# Altium integrated library ON Semi Small Signal Switching Diodes.IntLib: 233 symbols (part 4 of 6)
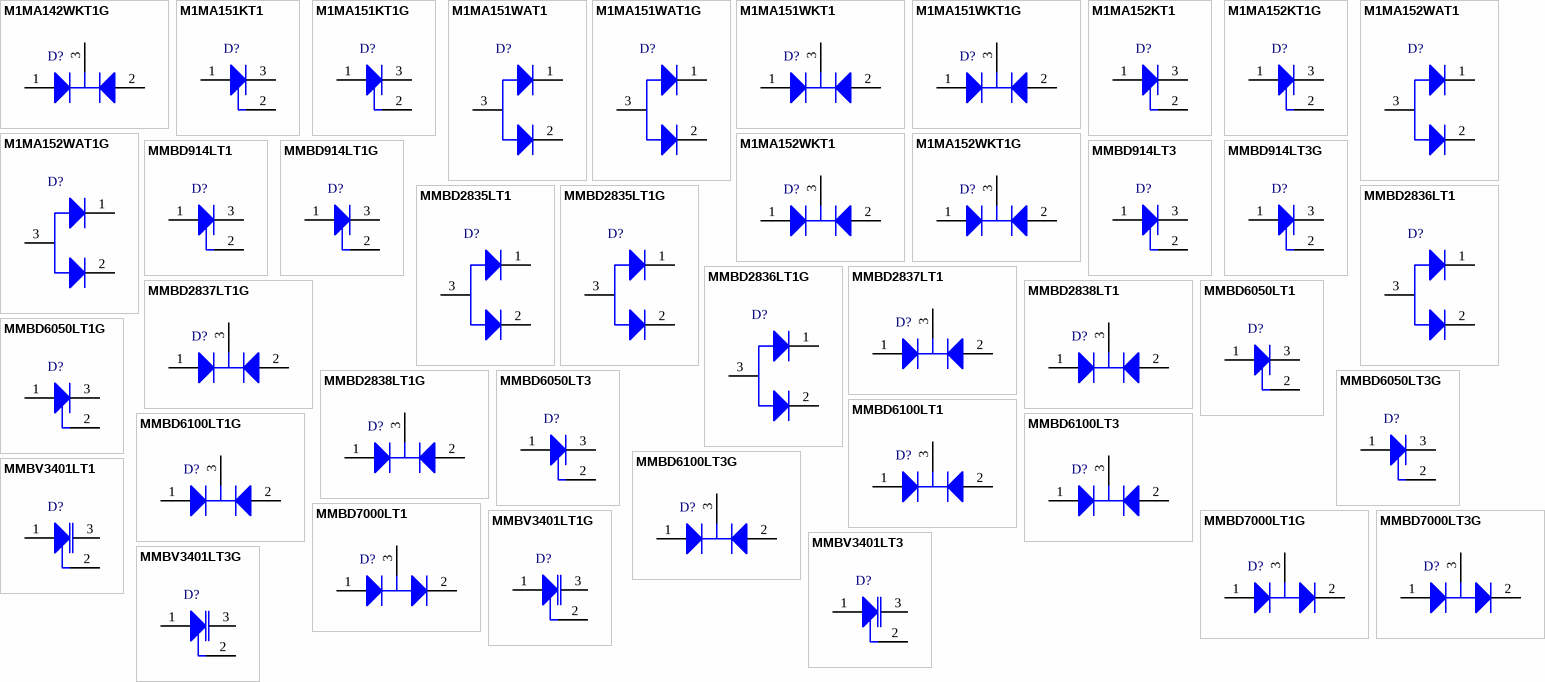
[diagram p9: symbols M1MA142WKT1G to MMBV3401LT3G]

## MMBD6100LT1
designator D?
Monolithic Dual Switching Diodes, 3-Pin SOT-23, Tape and Reel; Manufacturer: On Semiconductor; PartNumber: MMBD6100LT1; Configuration: Common Cathode; IF Max (A): 0.2; trr Max (ns): 4; DatasheetVersion: Rev. 3; PackageVersion: Rev. AP, 11/2009; PackageReference: SOT-23-3-318-08; PackageDescription: 3-Pin Small Outline Transistor, Body 2.92 x 1.3 mm, Pitch 0.95 mm; Supplier 1: Digi-Key; Supplier Part Number 1: MMBD6100LT1OSCT-ND; Packing: Tape and Reel; RoHS: FALSE; Mounting Technology: Surface Mount; ComponentLink1Description: Manufacturer URL; ComponentLink1URL: http://www.onsemi.com/; ComponentLink2Description: Datasheet; ComponentLink2URL: http://www.onsemi.cn/pub_link/Collateral/MMBD6100LT1-D.PDF; ComponentLink3Description: Package Specification; ComponentLink3URL: http://www.onsemi.cn/pub_link/Collateral/318-08.PDF
footprint ONSC-SOT-23-3-318-08_V (SOT23, 3-Leads, Body 2.92x1.3mm, Pitch 0.95mm)
pins: 1 A1, 2 A2, 3 K

## MMBD6100LT1G
designator D?
Monolithic Dual Switching Diodes, 3-Pin SOT-23, Pb-Free, Tape and Reel; Manufacturer: On Semiconductor; PartNumber: MMBD6100LT1G; Configuration: Common Cathode; IF Max (A): 0.2; trr Max (ns): 4; DatasheetVersion: Rev. 3; PackageVersion: Rev. AP, 11/2009; PackageReference: SOT-23-3-318-08; PackageDescription: 3-Pin Small Outline Transistor, Body 2.92 x 1.3 mm, Pitch 0.95 mm; Supplier 1: Digi-Key; Supplier Part Number 1: MMBD6100LT1GOSTR-ND; Supplier 2: Digi-Key; Supplier Part Number 2: MMBD6100LT1GOSCT-ND; Supplier 3: Digi-Key; Supplier Part Number 3: MMBD6100LT1GOSDKR-ND; Supplier 4: Farnell; Supplier Part Number 4: 1459096RL; Supplier 5: Farnell; Supplier Part Number 5: 1459096; Supplier 6: Farnell; Supplier Part Number 6: 2370813; Supplier 7: Newark; Supplier Part Number 7: 67R1324; Supplier 8: Newark; Supplier Part Number 8: 45J1515; Supplier 9: Mouser; Supplier Part Number 9: 863-MMBD6100LT1G; Packing: Tape and Reel; RoHS: TRUE; Mounting Technology: Surface Mount; ComponentLink1Description: Manufacturer URL; ComponentLink1URL: http://www.onsemi.com/; ComponentLink2Description: Datasheet; ComponentLink2URL: http://www.onsemi.cn/pub_link/Collateral/MMBD6100LT1-D.PDF; ComponentLink3Description: Package Specification; ComponentLink3URL: http://www.onsemi.cn/pub_link/Collateral/318-08.PDF
footprint ONSC-SOT-23-3-318-08_V (SOT23, 3-Leads, Body 2.92x1.3mm, Pitch 0.95mm)
pins: 1 A1, 2 A2, 3 K

## MMBD6100LT3
designator D?
Monolithic Dual Switching Diodes, 3-Pin SOT-23, Tape and Reel; Manufacturer: On Semiconductor; PartNumber: MMBD6100LT3; Configuration: Common Cathode; IF Max (A): 0.2; trr Max (ns): 4; DatasheetVersion: Rev. 3; PackageVersion: Rev. AP, 11/2009; PackageReference: SOT-23-3-318-08; PackageDescription: 3-Pin Small Outline Transistor, Body 2.92 x 1.3 mm, Pitch 0.95 mm; Supplier 1: Digi-Key; Supplier Part Number 1: MMBD6100LT3-ND; Supplier 2: Mouser; Supplier Part Number 2: 863-MMBD6100LT3; Packing: Tape and Reel; RoHS: FALSE; Mounting Technology: Surface Mount; ComponentLink1Description: Manufacturer URL; ComponentLink1URL: http://www.onsemi.com/; ComponentLink2Description: Datasheet; ComponentLink2URL: http://www.onsemi.cn/pub_link/Collateral/MMBD6100LT1-D.PDF; ComponentLink3Description: Package Specification; ComponentLink3URL: http://www.onsemi.cn/pub_link/Collateral/318-08.PDF
footprint ONSC-SOT-23-3-318-08_V (SOT23, 3-Leads, Body 2.92x1.3mm, Pitch 0.95mm)
pins: 1 A1, 2 A2, 3 K

## MMBD6100LT3G
designator D?
Monolithic Dual Switching Diodes, 3-Pin SOT-23, Pb-Free, Tape and Reel; Manufacturer: On Semiconductor; PartNumber: MMBD6100LT3G; Configuration: Common Cathode; IF Max (A): 0.2; trr Max (ns): 4; DatasheetVersion: Rev. 3; PackageVersion: Rev. AP, 11/2009; PackageReference: SOT-23-3-318-08; PackageDescription: 3-Pin Small Outline Transistor, Body 2.92 x 1.3 mm, Pitch 0.95 mm; Supplier 1: Digi-Key; Supplier Part Number 1: MMBD6100LT3G-ND; Supplier 2: Mouser; Supplier Part Number 2: 863-MMBD6100LT3G; Packing: Tape and Reel; RoHS: TRUE; Mounting Technology: Surface Mount; ComponentLink1Description: Manufacturer URL; ComponentLink1URL: http://www.onsemi.com/; ComponentLink2Description: Datasheet; ComponentLink2URL: http://www.onsemi.cn/pub_link/Collateral/MMBD6100LT1-D.PDF; ComponentLink3Description: Package Specification; ComponentLink3URL: http://www.onsemi.cn/pub_link/Collateral/318-08.PDF
footprint ONSC-SOT-23-3-318-08_V (SOT23, 3-Leads, Body 2.92x1.3mm, Pitch 0.95mm)
pins: 1 A1, 2 A2, 3 K

## MMBD7000LT1
designator D?
Dual Switching Diodes, 3-Pin SOT-23, Tape and Reel; Manufacturer: On Semiconductor; PartNumber: MMBD7000LT1; Configuration: Dual Series; IF Max (A): 0.2; trr Max (ns): 4; DatasheetVersion: Rev. 6; PackageVersion: Rev. AP, 11/2009; PackageReference: SOT-23-3-318-08; PackageDescription: 3-Pin Small Outline Transistor, Body 2.92 x 1.3 mm, Pitch 0.95 mm; Supplier 1: Digi-Key; Supplier Part Number 1: MMBD7000LT1OSCT-ND; Packing: Tape and Reel; RoHS: FALSE; Mounting Technology: Surface Mount; ComponentLink1Description: Manufacturer URL; ComponentLink1URL: http://www.onsemi.com/; ComponentLink2Description: Datasheet; ComponentLink2URL: http://www.onsemi.cn/pub_link/Collateral/MMBD7000LT1-D.PDF; ComponentLink3Description: Package Specification; ComponentLink3URL: http://www.onsemi.cn/pub_link/Collateral/318-08.PDF
footprint ONSC-SOT-23-3-318-08_V (SOT23, 3-Leads, Body 2.92x1.3mm, Pitch 0.95mm)
pins: 1 A, 2 K, 3 K/A

## MMBD7000LT1G
designator D?
Dual Switching Diodes, 3-Pin SOT-23, Pb-Free, Tape and Reel; Manufacturer: On Semiconductor; PartNumber: MMBD7000LT1G; Configuration: Dual Series; IF Max (A): 0.2; trr Max (ns): 4; DatasheetVersion: Rev. 6; PackageVersion: Rev. AP, 11/2009; PackageReference: SOT-23-3-318-08; PackageDescription: 3-Pin Small Outline Transistor, Body 2.92 x 1.3 mm, Pitch 0.95 mm; Supplier 1: Digi-Key; Supplier Part Number 1: MMBD7000LT1GOSTR-ND; Supplier 2: Digi-Key; Supplier Part Number 2: MMBD7000LT1GOSCT-ND; Supplier 3: Digi-Key; Supplier Part Number 3: MMBD7000LT1GOSDKR-ND; Supplier 4: Farnell; Supplier Part Number 4: 2317661; Supplier 5: Farnell; Supplier Part Number 5: 1459097RL; Supplier 6: Farnell; Supplier Part Number 6: 1459097; Supplier 7: Newark; Supplier Part Number 7: 67R1325; Supplier 8: Newark; Supplier Part Number 8: 88H4776; Supplier 9: Newark; Supplier Part Number 9: 28X7920; Supplier 10: Mouser; Supplier Part Number 10: 863-MMBD7000LT1G; Packing: Tape and Reel; RoHS: TRUE; Mounting Technology: Surface Mount; ComponentLink1Description: Manufacturer URL; ComponentLink1URL: http://www.onsemi.com/; ComponentLink2Description: Datasheet; ComponentLink2URL: http://www.onsemi.cn/pub_link/Collateral/MMBD7000LT1-D.PDF; ComponentLink3Description: Package Specification; ComponentLink3URL: http://www.onsemi.cn/pub_link/Collateral/318-08.PDF
footprint ONSC-SOT-23-3-318-08_V (SOT23, 3-Leads, Body 2.92x1.3mm, Pitch 0.95mm)
pins: 1 A, 2 K, 3 K/A

## MMBD7000LT3G
designator D?
Dual Switching Diodes, 3-Pin SOT-23, Pb-Free, Tape and Reel; Manufacturer: On Semiconductor; PartNumber: MMBD7000LT3G; Configuration: Dual Series; IF Max (A): 0.2; trr Max (ns): 4; DatasheetVersion: Rev. 6; PackageVersion: Rev. AP, 11/2009; PackageReference: SOT-23-3-318-08; PackageDescription: 3-Pin Small Outline Transistor, Body 2.92 x 1.3 mm, Pitch 0.95 mm; Supplier 1: Digi-Key; Supplier Part Number 1: MMBD7000LT3GOSTR-ND; Supplier 2: Digi-Key; Supplier Part Number 2: MMBD7000LT3GOSCT-ND; Supplier 3: Digi-Key; Supplier Part Number 3: MMBD7000LT3GOSDKR-ND; Supplier 4: Farnell; Supplier Part Number 4: 1899522; Supplier 5: Newark; Supplier Part Number 5: 09R9444; Supplier 6: Newark; Supplier Part Number 6: 71J5986; Supplier 7: Mouser; Supplier Part Number 7: 863-MMBD7000LT3G; Packing: Tape and Reel; RoHS: TRUE; Mounting Technology: Surface Mount; ComponentLink1Description: Manufacturer URL; ComponentLink1URL: http://www.onsemi.com/; ComponentLink2Description: Datasheet; ComponentLink2URL: http://www.onsemi.cn/pub_link/Collateral/MMBD7000LT1-D.PDF; ComponentLink3Description: Package Specification; ComponentLink3URL: http://www.onsemi.cn/pub_link/Collateral/318-08.PDF
footprint ONSC-SOT-23-3-318-08_V (SOT23, 3-Leads, Body 2.92x1.3mm, Pitch 0.95mm)
pins: 1 A, 2 K, 3 K/A

## MMBV3401LT1
designator D?
Silicon Pin Diode, 3-Pin SOT-23, Tape and Reel; Manufacturer: On Semiconductor; PartNumber: MMBV3401LT1; Configuration: Single; DatasheetVersion: Rev. 6; PackageVersion: Rev. AP, 11/2009; PackageReference: SOT-23-3-318-08; PackageDescription: 3-Pin Small Outline Transistor, Body 2.92 x 1.3 mm, Pitch 0.95 mm; Supplier 1: Digi-Key; Supplier Part Number 1: MMBV3401LT1OSCT-ND; Packing: Tape and Reel; RoHS: FALSE; Mounting Technology: Surface Mount; ComponentLink1Description: Manufacturer URL; ComponentLink1URL: http://www.onsemi.com/; ComponentLink2Description: Datasheet; ComponentLink2URL: http://www.onsemi.cn/pub_link/Collateral/MMBV3401LT1-D.PDF; ComponentLink3Description: Package Specification; ComponentLink3URL: http://www.onsemi.cn/pub_link/Collateral/318-08.PDF
footprint ONSC-SOT-23-3-318-08_V (SOT23, 3-Leads, Body 2.92x1.3mm, Pitch 0.95mm)
pins: 1 A, 2 NC, 3 K

## MMBV3401LT1G
designator D?
Silicon Pin Diode, 3-Pin SOT-23, Pb-Free, Tape and Reel; Manufacturer: On Semiconductor; PartNumber: MMBV3401LT1G; Configuration: Single; DatasheetVersion: Rev. 6; PackageVersion: Rev. AP, 11/2009; PackageReference: SOT-23-3-318-08; PackageDescription: 3-Pin Small Outline Transistor, Body 2.92 x 1.3 mm, Pitch 0.95 mm; Supplier 1: Digi-Key; Supplier Part Number 1: MMBV3401LT1GOSTR-ND; Supplier 2: Digi-Key; Supplier Part Number 2: MMBV3401LT1GOSCT-ND; Supplier 3: Digi-Key; Supplier Part Number 3: MMBV3401LT1GOSDKR-ND; Supplier 4: Newark; Supplier Part Number 4: 45J1542; Supplier 5: Mouser; Supplier Part Number 5: 863-MMBV3401LT1G; Packing: Tape and Reel; RoHS: TRUE; Mounting Technology: Surface Mount; ComponentLink1Description: Manufacturer URL; ComponentLink1URL: http://www.onsemi.com/; ComponentLink2Description: Datasheet; ComponentLink2URL: http://www.onsemi.cn/pub_link/Collateral/MMBV3401LT1-D.PDF; ComponentLink3Description: Package Specification; ComponentLink3URL: http://www.onsemi.cn/pub_link/Collateral/318-08.PDF
footprint ONSC-SOT-23-3-318-08_V (SOT23, 3-Leads, Body 2.92x1.3mm, Pitch 0.95mm)
pins: 1 A, 2 NC, 3 K

## MMBV3401LT3
designator D?
Silicon Pin Diode, 3-Pin SOT-23, Tape and Reel; Manufacturer: On Semiconductor; PartNumber: MMBV3401LT3; Note: 0; Configuration: Single; DatasheetVersion: Rev. 6; PackageVersion: Rev. AP, 11/2009; PackageReference: SOT-23-3-318-08; PackageDescription: 3-Pin Small Outline Transistor, Body 2.92 x 1.3 mm, Pitch 0.95 mm; Packing: Tape and Reel; RoHS: FALSE; Mounting Technology: Surface Mount; ComponentLink1Description: Manufacturer URL; ComponentLink1URL: http://www.onsemi.com/; ComponentLink2Description: Datasheet; ComponentLink2URL: http://www.onsemi.cn/pub_link/Collateral/MMBV3401LT1-D.PDF; ComponentLink3Description: Package Specification; ComponentLink3URL: http://www.onsemi.cn/pub_link/Collateral/318-08.PDF
footprint ONSC-SOT-23-3-318-08_V (SOT23, 3-Leads, Body 2.92x1.3mm, Pitch 0.95mm)
pins: 1 A, 2 NC, 3 K

## MMBV3401LT3G
designator D?
Silicon Pin Diode, 3-Pin SOT-23, Pb-Free, Tape and Reel; Manufacturer: On Semiconductor; PartNumber: MMBV3401LT3G; Configuration: Single; DatasheetVersion: Rev. 6; PackageVersion: Rev. AP, 11/2009; PackageReference: SOT-23-3-318-08; PackageDescription: 3-Pin Small Outline Transistor, Body 2.92 x 1.3 mm, Pitch 0.95 mm; Supplier 1: Digi-Key; Supplier Part Number 1: MMBV3401LT3G-ND; Supplier 2: Newark; Supplier Part Number 2: 42K1352; Supplier 3: Mouser; Supplier Part Number 3: 863-MMBV3401LT3G; Packing: Tape and Reel; RoHS: TRUE; Mounting Technology: Surface Mount; ComponentLink1Description: Manufacturer URL; ComponentLink1URL: http://www.onsemi.com/; ComponentLink2Description: Datasheet; ComponentLink2URL: http://www.onsemi.cn/pub_link/Collateral/MMBV3401LT1-D.PDF; ComponentLink3Description: Package Specification; ComponentLink3URL: http://www.onsemi.cn/pub_link/Collateral/318-08.PDF
footprint ONSC-SOT-23-3-318-08_V (SOT23, 3-Leads, Body 2.92x1.3mm, Pitch 0.95mm)
pins: 1 A, 2 NC, 3 K

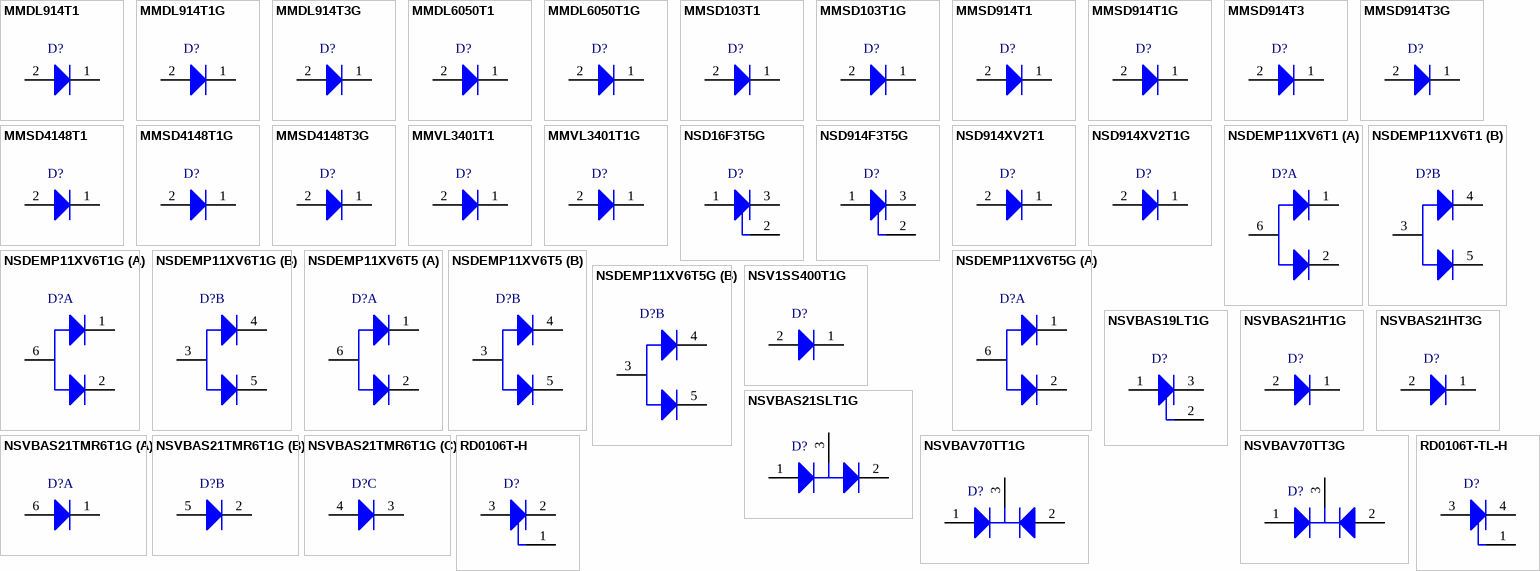
[diagram p4: symbols MMDL914T1 to RD0106T-TL-H]

## MMDL914T1
designator D?
High-Speed Switching Diode, 2-Pin SOD-323, Tape and Reel; Manufacturer: On Semiconductor; PartNumber: MMDL914T1; Configuration: Single; IF Max (A): 0.2; trr Max (ns): 4; DatasheetVersion: Rev. 9; PackageVersion: Rev. H, 03/2007; PackageReference: SOD-323-2-477-02; PackageDescription: 2-Pin SOD, Body 1.7 x 1.25 mm; Supplier 1: Digi-Key; Supplier Part Number 1: MMDL914T1OSCT-ND; Packing: Tape and Reel; RoHS: FALSE; Mounting Technology: Surface Mount; ComponentLink1Description: Manufacturer URL; ComponentLink1URL: http://www.onsemi.com/; ComponentLink2Description: Datasheet; ComponentLink2URL: http://www.onsemi.com/pub_link/Collateral/MMDL914T1-D.PDF; ComponentLink3Description: Package Specification; ComponentLink3URL: http://www.onsemi.com/pub_link/Collateral/477-02.PDF.1
footprint ONSC-SOD-323-2-477-02_V (SOD, 2-Leads, Body 1.7x1.25mm)
pins: 1 K, 2 A

## MMDL914T1G
designator D?
High-Speed Switching Diode, 2-Pin SOD-323, Pb-Free, Tape and Reel; Manufacturer: On Semiconductor; PartNumber: MMDL914T1G; Configuration: Single; IF Max (A): 0.2; trr Max (ns): 4; DatasheetVersion: Rev. 9; PackageVersion: Rev. H, 03/2007; PackageReference: SOD-323-2-477-02; PackageDescription: 2-Pin SOD, Body 1.7 x 1.25 mm; Supplier 1: Digi-Key; Supplier Part Number 1: MMDL914T1GOSTR-ND; Supplier 2: Digi-Key; Supplier Part Number 2: MMDL914T1GOSCT-ND; Supplier 3: Digi-Key; Supplier Part Number 3: MMDL914T1GOSDKR-ND; Supplier 4: Farnell; Supplier Part Number 4: 1838814; Supplier 5: Farnell; Supplier Part Number 5: 1838814RL; Supplier 6: Farnell; Supplier Part Number 6: 2317698; Supplier 7: Newark; Supplier Part Number 7: 10M6610; Supplier 8: Newark; Supplier Part Number 8: 88H4861; Supplier 9: Mouser; Supplier Part Number 9: 863-MMDL914T1G; Packing: Tape and Reel; RoHS: TRUE; Mounting Technology: Surface Mount; ComponentLink1Description: Manufacturer URL; ComponentLink1URL: http://www.onsemi.com/; ComponentLink2Description: Datasheet; ComponentLink2URL: http://www.onsemi.com/pub_link/Collateral/MMDL914T1-D.PDF; ComponentLink3Description: Package Specification; ComponentLink3URL: http://www.onsemi.com/pub_link/Collateral/477-02.PDF.1
footprint ONSC-SOD-323-2-477-02_V (SOD, 2-Leads, Body 1.7x1.25mm)
pins: 1 K, 2 A

## MMDL914T3G
designator D?
High-Speed Switching Diode, 2-Pin SOD-323, Pb-Free, Tape and Reel; Manufacturer: On Semiconductor; PartNumber: MMDL914T3G; Configuration: Single; IF Max (A): 0.2; trr Max (ns): 4; DatasheetVersion: Rev. 9; PackageVersion: Rev. H, 03/2007; PackageReference: SOD-323-2-477-02; PackageDescription: 2-Pin SOD, Body 1.7 x 1.25 mm; Supplier 1: Digi-Key; Supplier Part Number 1: MMDL914T3G-ND; Supplier 2: Mouser; Supplier Part Number 2: 863-MMDL914T3G; Packing: Tape and Reel; RoHS: TRUE; Mounting Technology: Surface Mount; ComponentLink1Description: Manufacturer URL; ComponentLink1URL: http://www.onsemi.com/; ComponentLink2Description: Datasheet; ComponentLink2URL: http://www.onsemi.com/pub_link/Collateral/MMDL914T1-D.PDF; ComponentLink3Description: Package Specification; ComponentLink3URL: http://www.onsemi.com/pub_link/Collateral/477-02.PDF.1
footprint ONSC-SOD-323-2-477-02_V (SOD, 2-Leads, Body 1.7x1.25mm)
pins: 1 K, 2 A

## MMDL6050T1
designator D?
Switching Diode, 2-Pin SOD-323, Tape and Reel; Manufacturer: On Semiconductor; PartNumber: MMDL6050T1; Configuration: Single; IF Max (A): 0.2; trr Max (ns): 4; DatasheetVersion: Rev. 5; PackageVersion: Rev. H, 03/2007; PackageReference: SOD-323-2-477-02; PackageDescription: 2-Pin SOD, Body 1.7 x 1.25 mm; Supplier 1: Digi-Key; Supplier Part Number 1: MMDL6050T1-ND; Packing: Tape and Reel; RoHS: FALSE; Mounting Technology: Surface Mount; ComponentLink1Description: Manufacturer URL; ComponentLink1URL: http://www.onsemi.com/; ComponentLink2Description: Datasheet; ComponentLink2URL: http://www.onsemi.cn/pub_link/Collateral/MMDL6050T1-D.PDF; ComponentLink3Description: Package Specification; ComponentLink3URL: http://www.onsemi.com/pub_link/Collateral/477-02.PDF.1
footprint ONSC-SOD-323-2-477-02_V (SOD, 2-Leads, Body 1.7x1.25mm)
pins: 1 K, 2 A

## MMDL6050T1G
designator D?
Switching Diode, 2-Pin SOD-323, Pb-Free, Tape and Reel; Manufacturer: On Semiconductor; PartNumber: MMDL6050T1G; Configuration: Single; IF Max (A): 0.2; trr Max (ns): 4; DatasheetVersion: Rev. 5; PackageVersion: Rev. H, 03/2007; PackageReference: SOD-323-2-477-02; PackageDescription: 2-Pin SOD, Body 1.7 x 1.25 mm; Supplier 1: Digi-Key; Supplier Part Number 1: MMDL6050T1GOSTR-ND; Supplier 2: Digi-Key; Supplier Part Number 2: MMDL6050T1GOSCT-ND; Supplier 3: Digi-Key; Supplier Part Number 3: MMDL6050T1GOSDKR-ND; Supplier 4: Newark; Supplier Part Number 4: 88H4860; Supplier 5: Mouser; Supplier Part Number 5: 863-MMDL6050T1G; Packing: Tape and Reel; RoHS: TRUE; Mounting Technology: Surface Mount; ComponentLink1Description: Manufacturer URL; ComponentLink1URL: http://www.onsemi.com/; ComponentLink2Description: Datasheet; ComponentLink2URL: http://www.onsemi.cn/pub_link/Collateral/MMDL6050T1-D.PDF; ComponentLink3Description: Package Specification; ComponentLink3URL: http://www.onsemi.com/pub_link/Collateral/477-02.PDF.1
footprint ONSC-SOD-323-2-477-02_V (SOD, 2-Leads, Body 1.7x1.25mm)
pins: 1 K, 2 A

## MMSD103T1
designator D?
High Voltage Switching Diode, 2-Pin SOD-123, Tape and Reel; Manufacturer: On Semiconductor; PartNumber: MMSD103T1; Configuration: Single; IF Max (A): 0.2; trr Max (ns): 50; DatasheetVersion: Rev. 6; PackageVersion: Rev. G, 10/2009; PackageReference: SOD-123-2-425-04; PackageDescription: 2-Pin SOD, Body 1.6 x 2.69 mm; Supplier 1: Digi-Key; Supplier Part Number 1: MMSD103T1-ND; Packing: Tape and Reel; RoHS: FALSE; Mounting Technology: Surface Mount; ComponentLink1Description: Manufacturer URL; ComponentLink1URL: http://www.onsemi.com/; ComponentLink2Description: Datasheet; ComponentLink2URL: http://www.onsemi.com/pub_link/Collateral/MMSD103T1-D.PDF; ComponentLink3Description: Package Specification; ComponentLink3URL: http://www.onsemi.com/pub_link/Collateral/425-04.PDF
footprint ONSC-SOD-123-2-425-04_V (SOD, 2-Leads, Body 2.69x1.6mm)
pins: 1 K, 2 A

## MMSD103T1G
designator D?
High Voltage Switching Diode, 2-Pin SOD-123, Pb-Free, Tape and Reel; Manufacturer: On Semiconductor; PartNumber: MMSD103T1G; Configuration: Single; IF Max (A): 0.2; trr Max (ns): 50; DatasheetVersion: Rev. 6; PackageVersion: Rev. G, 10/2009; PackageReference: SOD-123-2-425-04; PackageDescription: 2-Pin SOD, Body 1.6 x 2.69 mm; Supplier 1: Digi-Key; Supplier Part Number 1: MMSD103T1GOSTR-ND; Supplier 2: Digi-Key; Supplier Part Number 2: MMSD103T1GOSCT-ND; Supplier 3: Digi-Key; Supplier Part Number 3: MMSD103T1GOSDKR-ND; Supplier 4: Farnell; Supplier Part Number 4: 1705833; Supplier 5: Newark; Supplier Part Number 5: 26K4562; Supplier 6: Mouser; Supplier Part Number 6: 863-MMSD103T1G; Packing: Tape and Reel; RoHS: TRUE; Mounting Technology: Surface Mount; ComponentLink1Description: Manufacturer URL; ComponentLink1URL: http://www.onsemi.com/; ComponentLink2Description: Datasheet; ComponentLink2URL: http://www.onsemi.com/pub_link/Collateral/MMSD103T1-D.PDF; ComponentLink3Description: Package Specification; ComponentLink3URL: http://www.onsemi.com/pub_link/Collateral/425-04.PDF
footprint ONSC-SOD-123-2-425-04_V (SOD, 2-Leads, Body 2.69x1.6mm)
pins: 1 K, 2 A

## MMSD914T1
designator D?
Switching Diode, 2-Pin SOD-123, Tape and Reel; Manufacturer: On Semiconductor; PartNumber: MMSD914T1; Configuration: Single; IF Max (A): 0.2; trr Max (ns): 4; DatasheetVersion: Rev. 11; PackageVersion: Rev. G, 10/2009; PackageReference: SOD-123-2-425-04; PackageDescription: 2-Pin SOD, Body 1.6 x 2.69 mm; Supplier 1: Digi-Key; Supplier Part Number 1: MMSD914T1OSCT-ND; Packing: Tape and Reel; RoHS: FALSE; Mounting Technology: Surface Mount; ComponentLink1Description: Manufacturer URL; ComponentLink1URL: http://www.onsemi.com/; ComponentLink2Description: Datasheet; ComponentLink2URL: http://www.onsemi.com/pub_link/Collateral/MMSD914T1-D.PDF; ComponentLink3Description: Package Specification; ComponentLink3URL: http://www.onsemi.com/pub_link/Collateral/425-04.PDF
footprint ONSC-SOD-123-2-425-04_V (SOD, 2-Leads, Body 2.69x1.6mm)
pins: 1 K, 2 A

## MMSD914T1G
designator D?
Switching Diode, 2-Pin SOD-123, Pb-Free, Tape and Reel; Manufacturer: On Semiconductor; PartNumber: MMSD914T1G; Configuration: Single; IF Max (A): 0.2; trr Max (ns): 4; DatasheetVersion: Rev. 11; PackageVersion: Rev. G, 10/2009; PackageReference: SOD-123-2-425-04; PackageDescription: 2-Pin SOD, Body 1.6 x 2.69 mm; Supplier 1: Digi-Key; Supplier Part Number 1: MMSD914T1GOSTR-ND; Supplier 2: Digi-Key; Supplier Part Number 2: MMSD914T1GOSCT-ND; Supplier 3: Digi-Key; Supplier Part Number 3: MMSD914T1GOSDKR-ND; Supplier 4: Farnell; Supplier Part Number 4: 1459114; Supplier 5: Farnell; Supplier Part Number 5: 2317701; Supplier 6: Farnell; Supplier Part Number 6: 1459114RL; Supplier 7: Newark; Supplier Part Number 7: 67R1362; Supplier 8: Newark; Supplier Part Number 8: 88H4865; Supplier 9: Mouser; Supplier Part Number 9: 863-MMSD914T1G; Packing: Tape and Reel; RoHS: TRUE; Mounting Technology: Surface Mount; ComponentLink1Description: Manufacturer URL; ComponentLink1URL: http://www.onsemi.com/; ComponentLink2Description: Datasheet; ComponentLink2URL: http://www.onsemi.com/pub_link/Collateral/MMSD914T1-D.PDF; ComponentLink3Description: Package Specification; ComponentLink3URL: http://www.onsemi.com/pub_link/Collateral/425-04.PDF
footprint ONSC-SOD-123-2-425-04_V (SOD, 2-Leads, Body 2.69x1.6mm)
pins: 1 K, 2 A

## MMSD914T3
designator D?
Switching Diode, 2-Pin SOD-123, Tape and Reel; Manufacturer: On Semiconductor; PartNumber: MMSD914T3; Configuration: Single; IF Max (A): 0.2; trr Max (ns): 4; DatasheetVersion: Rev. 11; PackageVersion: Rev. G, 10/2009; PackageReference: SOD-123-2-425-04; PackageDescription: 2-Pin SOD, Body 1.6 x 2.69 mm; Supplier 1: Digi-Key; Supplier Part Number 1: MMSD914T3-ND; Packing: Tape and Reel; RoHS: FALSE; Mounting Technology: Surface Mount; ComponentLink1Description: Manufacturer URL; ComponentLink1URL: http://www.onsemi.com/; ComponentLink2Description: Datasheet; ComponentLink2URL: http://www.onsemi.com/pub_link/Collateral/MMSD914T1-D.PDF; ComponentLink3Description: Package Specification; ComponentLink3URL: http://www.onsemi.com/pub_link/Collateral/425-04.PDF
footprint ONSC-SOD-123-2-425-04_V (SOD, 2-Leads, Body 2.69x1.6mm)
pins: 1 K, 2 A

## MMSD914T3G
designator D?
Switching Diode, 2-Pin SOD-123, Pb-Free, Tape and Reel; Manufacturer: On Semiconductor; PartNumber: MMSD914T3G; Configuration: Single; IF Max (A): 0.2; trr Max (ns): 4; DatasheetVersion: Rev. 11; PackageVersion: Rev. G, 10/2009; PackageReference: SOD-123-2-425-04; PackageDescription: 2-Pin SOD, Body 1.6 x 2.69 mm; Supplier 1: Digi-Key; Supplier Part Number 1: MMSD914T3G-ND; Supplier 2: Newark; Supplier Part Number 2: 42K1367; Supplier 3: Mouser; Supplier Part Number 3: 863-MMSD914T3G; Packing: Tape and Reel; RoHS: TRUE; Mounting Technology: Surface Mount; ComponentLink1Description: Manufacturer URL; ComponentLink1URL: http://www.onsemi.com/; ComponentLink2Description: Datasheet; ComponentLink2URL: http://www.onsemi.com/pub_link/Collateral/MMSD914T1-D.PDF; ComponentLink3Description: Package Specification; ComponentLink3URL: http://www.onsemi.com/pub_link/Collateral/425-04.PDF
footprint ONSC-SOD-123-2-425-04_V (SOD, 2-Leads, Body 2.69x1.6mm)
pins: 1 K, 2 A

## MMSD4148T1
designator D?
Switching Diode, 2-Pin SOD-123, Tape and Reel; Manufacturer: On Semiconductor; PartNumber: MMSD4148T1; Configuration: Single; IF Max (A): 0.2; trr Max (ns): 4; DatasheetVersion: Rev. 11; PackageVersion: Rev. G, 10/2009; PackageReference: SOD-123-2-425-04; PackageDescription: 2-Pin SOD, Body 1.6 x 2.69 mm; Supplier 1: Digi-Key; Supplier Part Number 1: MMSD4148T1OSCT-ND; Packing: Tape and Reel; RoHS: FALSE; Mounting Technology: Surface Mount; ComponentLink1Description: Manufacturer URL; ComponentLink1URL: http://www.onsemi.com/; ComponentLink2Description: Datasheet; ComponentLink2URL: http://www.onsemi.com/pub_link/Collateral/MMSD4148T1-D.PDF; ComponentLink3Description: Package Specification; ComponentLink3URL: http://www.onsemi.com/pub_link/Collateral/425-04.PDF
footprint ONSC-SOD-123-2-425-04_V (SOD, 2-Leads, Body 2.69x1.6mm)
pins: 1 K, 2 A

## MMSD4148T1G
designator D?
Switching Diode, 2-Pin SOD-123, Pb-Free, Tape and Reel; Manufacturer: On Semiconductor; PartNumber: MMSD4148T1G; Configuration: Single; IF Max (A): 0.2; trr Max (ns): 4; DatasheetVersion: Rev. 11; PackageVersion: Rev. G, 10/2009; PackageReference: SOD-123-2-425-04; PackageDescription: 2-Pin SOD, Body 1.6 x 2.69 mm; Supplier 1: Digi-Key; Supplier Part Number 1: MMSD4148T1GOSTR-ND; Supplier 2: Digi-Key; Supplier Part Number 2: MMSD4148T1GOSCT-ND; Supplier 3: Digi-Key; Supplier Part Number 3: MMSD4148T1GOSDKR-ND; Supplier 4: Farnell; Supplier Part Number 4: 2317697; Supplier 5: Farnell; Supplier Part Number 5: 9556079RL; Supplier 6: Farnell; Supplier Part Number 6: 9556079; Supplier 7: Newark; Supplier Part Number 7: 85W2822; Supplier 8: Newark; Supplier Part Number 8: 45J1568; Supplier 9: Newark; Supplier Part Number 9: 28X7925; Supplier 10: Mouser; Supplier Part Number 10: 863-MMSD4148T1G; Packing: Tape and Reel; RoHS: TRUE; Mounting Technology: Surface Mount; ComponentLink1Description: Manufacturer URL; ComponentLink1URL: http://www.onsemi.com/; ComponentLink2Description: Datasheet; ComponentLink2URL: http://www.onsemi.com/pub_link/Collateral/MMSD4148T1-D.PDF; ComponentLink3Description: Package Specification; ComponentLink3URL: http://www.onsemi.com/pub_link/Collateral/425-04.PDF
footprint ONSC-SOD-123-2-425-04_V (SOD, 2-Leads, Body 2.69x1.6mm)
pins: 1 K, 2 A

## MMSD4148T3G
designator D?
Switching Diode, 2-Pin SOD-123, Pb-Free, Tape and Reel; Manufacturer: On Semiconductor; PartNumber: MMSD4148T3G; Configuration: Single; IF Max (A): 0.2; trr Max (ns): 4; DatasheetVersion: Rev. 11; PackageVersion: Rev. G, 10/2009; PackageReference: SOD-123-2-425-04; PackageDescription: 2-Pin SOD, Body 1.6 x 2.69 mm; Supplier 1: Digi-Key; Supplier Part Number 1: MMSD4148T3GOSTR-ND; Supplier 2: Digi-Key; Supplier Part Number 2: MMSD4148T3GOSCT-ND; Supplier 3: Digi-Key; Supplier Part Number 3: MMSD4148T3GOSDKR-ND; Supplier 4: Farnell; Supplier Part Number 4: 2368409; Supplier 5: Newark; Supplier Part Number 5: 10N9495; Supplier 6: Newark; Supplier Part Number 6: 02M9801; Supplier 7: Mouser; Supplier Part Number 7: 863-MMSD4148T3G; Packing: Tape and Reel; RoHS: TRUE; Mounting Technology: Surface Mount; ComponentLink1Description: Manufacturer URL; ComponentLink1URL: http://www.onsemi.com/; ComponentLink2Description: Datasheet; ComponentLink2URL: http://www.onsemi.com/pub_link/Collateral/MMSD4148T1-D.PDF; ComponentLink3Description: Package Specification; ComponentLink3URL: http://www.onsemi.com/pub_link/Collateral/425-04.PDF
footprint ONSC-SOD-123-2-425-04_V (SOD, 2-Leads, Body 2.69x1.6mm)
pins: 1 K, 2 A

## MMVL3401T1
designator D?
Silicon Pin Diode, 2-Pin SOD-323, Tape and Reel; Manufacturer: On Semiconductor; PartNumber: MMVL3401T1; Configuration: Single; IF Max (A): 0.02; DatasheetVersion: Rev. 4; PackageVersion: Rev. H, 03/2007; PackageReference: SOD-323-2-477-02; PackageDescription: 2-Pin SOD, Body 1.7 x 1.25 mm; Supplier 1: Digi-Key; Supplier Part Number 1: MMVL3401T1-ND; Packing: Tape and Reel; RoHS: FALSE; Mounting Technology: Surface Mount; ComponentLink1Description: Manufacturer URL; ComponentLink1URL: http://www.onsemi.com/; ComponentLink2Description: Datasheet; ComponentLink2URL: http://www.onsemi.com/pub_link/Collateral/MMVL3401T1-D.PDF; ComponentLink3Description: Package Specification; ComponentLink3URL: http://www.onsemi.com/pub_link/Collateral/477-02.PDF.1
footprint ONSC-SOD-323-2-477-02_V (SOD, 2-Leads, Body 1.7x1.25mm)
pins: 1 K, 2 A

## MMVL3401T1G
designator D?
Silicon Pin Diode, 2-Pin SOD-323, Pb-Free, Tape and Reel; Manufacturer: On Semiconductor; PartNumber: MMVL3401T1G; Configuration: Single; IF Max (A): 0.02; DatasheetVersion: Rev. 4; PackageVersion: Rev. H, 03/2007; PackageReference: SOD-323-2-477-02; PackageDescription: 2-Pin SOD, Body 1.7 x 1.25 mm; Supplier 1: Digi-Key; Supplier Part Number 1: MMVL3401T1G-ND; Supplier 2: Newark; Supplier Part Number 2: 42K1397; Supplier 3: Mouser; Supplier Part Number 3: 863-MMVL3401T1G; Packing: Tape and Reel; RoHS: TRUE; Mounting Technology: Surface Mount; ComponentLink1Description: Manufacturer URL; ComponentLink1URL: http://www.onsemi.com/; ComponentLink2Description: Datasheet; ComponentLink2URL: http://www.onsemi.com/pub_link/Collateral/MMVL3401T1-D.PDF; ComponentLink3Description: Package Specification; ComponentLink3URL: http://www.onsemi.com/pub_link/Collateral/477-02.PDF.1
footprint ONSC-SOD-323-2-477-02_V (SOD, 2-Leads, Body 1.7x1.25mm)
pins: 1 K, 2 A

## NSD16F3T5G
designator D?
Switching Diode, 3-Pin SOT-1123, Pb-Free, Tape and Reel; Manufacturer: On Semiconductor; PartNumber: NSD16F3T5G; Configuration: Single; IF Max (A): 0.2; trr Max (ns): 6; DatasheetVersion: Rev. 0; PackageVersion: Rev. A, 11/2007; PackageReference: SOT-1123-3-524AA-01_A; PackageDescription: 3-Pin Small Outline Transistor, Body 0.8 x 0.6 mm, Pitch 0.35 mm; Supplier 1: Digi-Key; Supplier Part Number 1: NSD16F3T5G-ND; Supplier 2: Mouser; Supplier Part Number 2: 863-NSD16F3T5G; Packing: Tape and Reel; RoHS: TRUE; Mounting Technology: Surface Mount; ComponentLink1Description: Manufacturer URL; ComponentLink1URL: http://www.onsemi.com/; ComponentLink2Description: Datasheet; ComponentLink2URL: http://www.onsemi.com/pub_link/Collateral/NSD16F3-D.PDF; ComponentLink3Description: Package Specification; ComponentLink3URL: http://www.onsemi.com/pub_link/Collateral/NSD914F3-D.PDF
footprint ONSC-SOT-1123-3-524AA-01_A_V (SOT, 3-Leads, Body 0.8x0.6mm, Pitch 0.35mm)
pins: 1 A, 2 NC, 3 K

## NSD914F3T5G
designator D?
High-Speed Switching Diode, 3-Pin SOT-1123, Pb-Free, Tape and Reel; Manufacturer: On Semiconductor; PartNumber: NSD914F3T5G; Configuration: Single; IF Max (A): 0.2; trr Max (ns): 4; DatasheetVersion: Rev. A; PackageVersion: Rev. A, 11/2007; PackageReference: SOT-1123-3-524AA-01_A; PackageDescription: 3-Pin Small Outline Transistor, Body 0.8 x 0.6 mm, Pitch 0.35 mm; Supplier 1: Digi-Key; Supplier Part Number 1: NSD914F3T5G-ND; Supplier 2: Mouser; Supplier Part Number 2: 863-NSD914F3T5G; Packing: Tape and Reel; RoHS: TRUE; Mounting Technology: Surface Mount; ComponentLink1Description: Manufacturer URL; ComponentLink1URL: http://www.onsemi.com/; ComponentLink2Description: Datasheet; ComponentLink2URL: http://www.onsemi.com/pub_link/Collateral/NSD914F3-D.PDF; ComponentLink3Description: Package Specification; ComponentLink3URL: http://www.onsemi.com/pub_link/Collateral/NSD914F3-D.PDF
footprint ONSC-SOT-1123-3-524AA-01_A_V (SOT, 3-Leads, Body 0.8x0.6mm, Pitch 0.35mm)
pins: 1 A, 2 NC, 3 K

## NSD914XV2T1
designator D?
High-Speed Switching Diode, 2-Pin SOD-523, Tape and Reel; Manufacturer: On Semiconductor; PartNumber: NSD914XV2T1; Configuration: Single; IF Max (A): 0.2; trr Max (ns): 4; DatasheetVersion: Rev. 4; PackageVersion: Rev. E, 09/2010; PackageReference: SOD-523-2-502-01; PackageDescription: 2-Pin SOD, Body 1.2 x 0.8 mm; Supplier 1: Digi-Key; Supplier Part Number 1: NSD914XV2T1OSTR-ND; Supplier 2: Mouser; Supplier Part Number 2: 863-NSD914XV2T1; Packing: Tape and Reel; RoHS: FALSE; Mounting Technology: Surface Mount; ComponentLink1Description: Manufacturer URL; ComponentLink1URL: http://www.onsemi.com/; ComponentLink2Description: Datasheet; ComponentLink2URL: http://www.onsemi.com/pub_link/Collateral/NSD914XV2T1-D.PDF; ComponentLink3Description: Package Specification; ComponentLink3URL: http://www.onsemi.com/pub_link/Collateral/502-01.PDF
footprint ONSC-SOD-523-2-502-01_V (SOD, 2-Leads, Body 1.2x0.8mm)
pins: 1 K, 2 A

## NSD914XV2T1G
designator D?
High-Speed Switching Diode, 2-Pin SOD-523, Pb-Free, Tape and Reel; Manufacturer: On Semiconductor; PartNumber: NSD914XV2T1G; Configuration: Single; IF Max (A): 0.2; trr Max (ns): 4; DatasheetVersion: Rev. 4; PackageVersion: Rev. E, 09/2010; PackageReference: SOD-523-2-502-01; PackageDescription: 2-Pin SOD, Body 1.2 x 0.8 mm; Supplier 1: Digi-Key; Supplier Part Number 1: NSD914XV2T1GOSTR-ND; Supplier 2: Digi-Key; Supplier Part Number 2: NSD914XV2T1GOSCT-ND; Supplier 3: Digi-Key; Supplier Part Number 3: NSD914XV2T1GOSDKR-ND; Supplier 4: Newark; Supplier Part Number 4: 42K2366; Supplier 5: Mouser; Supplier Part Number 5: 863-NSD914XV2T1G; Packing: Tape and Reel; RoHS: TRUE; Mounting Technology: Surface Mount; ComponentLink1Description: Manufacturer URL; ComponentLink1URL: http://www.onsemi.com/; ComponentLink2Description: Datasheet; ComponentLink2URL: http://www.onsemi.com/pub_link/Collateral/NSD914XV2T1-D.PDF; ComponentLink3Description: Package Specification; ComponentLink3URL: http://www.onsemi.com/pub_link/Collateral/502-01.PDF
footprint ONSC-SOD-523-2-502-01_V (SOD, 2-Leads, Body 1.2x0.8mm)
pins: 1 K, 2 A

## NSDEMP11XV6T1
designator D?
Common Anode Quad Array Switching Diodes, 6-Pin SOT-563, Pb-Free, Tape and Reel; Manufacturer: On Semiconductor; PartNumber: NSDEMP11XV6T1; Configuration: Dual Common Anode; IF Max (A): 0.1; trr Max (ns): 4; DatasheetVersion: Rev. 3; PackageVersion: Rev. F, 04/2005; PackageReference: SOT-563-6-463A-01; PackageDescription: 6-Pin Small Outline Transistor, Body 1.6 x 1.2 mm, Pitch 0.5 mm; Supplier 1: Digi-Key; Supplier Part Number 1: NSDEMP11XV6T1OSTR-ND; Supplier 2: Digi-Key; Supplier Part Number 2: NSDEMP11XV6T1OSCT-ND; Supplier 3: Mouser; Supplier Part Number 3: 863-NSDEMP11XV6T1; Packing: Tape and Reel; RoHS: TRUE; Mounting Technology: Surface Mount; ComponentLink1Description: Manufacturer URL; ComponentLink1URL: http://www.onsemi.com/; ComponentLink2Description: Datasheet; ComponentLink2URL: http://www.onsemi.com/pub_link/Collateral/NSDEMP11XV6T1-D.PDF; ComponentLink3Description: Package Specification; ComponentLink3URL: http://www.onsemi.cn/pub_link/Collateral/463A-01.PDF
footprint ONSC-SOT-563-6-463A-01_V (SOT23, 6-Leads, Body 1.6x1.2mm, Pitch 0.5mm)
part A pins: 1 K1, 2 K2, 6 A1
part B pins: 3 A2, 4 K3, 5 K4

## NSDEMP11XV6T1G
designator D?
Common Anode Quad Array Switching Diodes, 6-Pin SOT-563, Pb-Free, Tape and Reel; Manufacturer: On Semiconductor; PartNumber: NSDEMP11XV6T1G; Configuration: Dual Common Anode; IF Max (A): 0.1; trr Max (ns): 4; DatasheetVersion: Rev. 3; PackageVersion: Rev. F, 04/2005; PackageReference: SOT-563-6-463A-01; PackageDescription: 6-Pin Small Outline Transistor, Body 1.6 x 1.2 mm, Pitch 0.5 mm; Supplier 1: Digi-Key; Supplier Part Number 1: NSDEMP11XV6T1GOSTR-ND; Supplier 2: Digi-Key; Supplier Part Number 2: NSDEMP11XV6T1GOSCT-ND; Supplier 3: Digi-Key; Supplier Part Number 3: NSDEMP11XV6T1GOSDKR-ND; Supplier 4: Newark; Supplier Part Number 4: 42K2364; Supplier 5: Mouser; Supplier Part Number 5: 863-NSDEMP11XV6T1G; Packing: Tape and Reel; RoHS: TRUE; Mounting Technology: Surface Mount; ComponentLink1Description: Manufacturer URL; ComponentLink1URL: http://www.onsemi.com/; ComponentLink2Description: Datasheet; ComponentLink2URL: http://www.onsemi.com/pub_link/Collateral/NSDEMP11XV6T1-D.PDF; ComponentLink3Description: Package Specification; ComponentLink3URL: http://www.onsemi.cn/pub_link/Collateral/463A-01.PDF
footprint ONSC-SOT-563-6-463A-01_V (SOT23, 6-Leads, Body 1.6x1.2mm, Pitch 0.5mm)
part A pins: 1 K1, 2 K2, 6 A1
part B pins: 3 A2, 4 K3, 5 K4

## NSDEMP11XV6T5
designator D?
Common Anode Quad Array Switching Diodes, 6-Pin SOT-563, Pb-Free, Tape and Reel; Manufacturer: On Semiconductor; PartNumber: NSDEMP11XV6T5; Configuration: Dual Common Anode; IF Max (A): 0.1; trr Max (ns): 4; DatasheetVersion: Rev. 3; PackageVersion: Rev. F, 04/2005; PackageReference: SOT-563-6-463A-01; PackageDescription: 6-Pin Small Outline Transistor, Body 1.6 x 1.2 mm, Pitch 0.5 mm; Supplier 1: Digi-Key; Supplier Part Number 1: NSDEMP11XV6T5-ND; Supplier 2: Mouser; Supplier Part Number 2: 863-NSDEMP11XV6T5; Packing: Tape and Reel; RoHS: TRUE; Mounting Technology: Surface Mount; ComponentLink1Description: Manufacturer URL; ComponentLink1URL: http://www.onsemi.com/; ComponentLink2Description: Datasheet; ComponentLink2URL: http://www.onsemi.com/pub_link/Collateral/NSDEMP11XV6T1-D.PDF; ComponentLink3Description: Package Specification; ComponentLink3URL: http://www.onsemi.cn/pub_link/Collateral/463A-01.PDF
footprint ONSC-SOT-563-6-463A-01_V (SOT23, 6-Leads, Body 1.6x1.2mm, Pitch 0.5mm)
part A pins: 1 K1, 2 K2, 6 A1
part B pins: 3 A2, 4 K3, 5 K4

## NSDEMP11XV6T5G
designator D?
Common Anode Quad Array Switching Diodes, 6-Pin SOT-563, Pb-Free, Tape and Reel; Manufacturer: On Semiconductor; PartNumber: NSDEMP11XV6T5G; Configuration: Dual Common Anode; IF Max (A): 0.1; trr Max (ns): 4; DatasheetVersion: Rev. 3; PackageVersion: Rev. F, 04/2005; PackageReference: SOT-563-6-463A-01; PackageDescription: 6-Pin Small Outline Transistor, Body 1.6 x 1.2 mm, Pitch 0.5 mm; Supplier 1: Digi-Key; Supplier Part Number 1: NSDEMP11XV6T5G-ND; Supplier 2: Mouser; Supplier Part Number 2: 863-NSDEMP11XV6T5G; Packing: Tape and Reel; RoHS: TRUE; Mounting Technology: Surface Mount; ComponentLink1Description: Manufacturer URL; ComponentLink1URL: http://www.onsemi.com/; ComponentLink2Description: Datasheet; ComponentLink2URL: http://www.onsemi.com/pub_link/Collateral/NSDEMP11XV6T1-D.PDF; ComponentLink3Description: Package Specification; ComponentLink3URL: http://www.onsemi.cn/pub_link/Collateral/463A-01.PDF
footprint ONSC-SOT-563-6-463A-01_V (SOT23, 6-Leads, Body 1.6x1.2mm, Pitch 0.5mm)
part A pins: 1 K1, 2 K2, 6 A1
part B pins: 3 A2, 4 K3, 5 K4

## NSV1SS400T1G
designator D?
High-Speed Switching Diode, 2-Pin SOD-523, Pb-Free, Tape and Reel; Manufacturer: On Semiconductor; PartNumber: NSV1SS400T1G; Configuration: Single; IF Max (A): 0.2; trr Max (ns): 4; DatasheetVersion: Rev. 7; PackageVersion: Rev. E, 09/2010; PackageReference: SOD-523-2-502-01; PackageDescription: 2-Pin SOD, Body 1.2 x 0.8 mm; Supplier 1: Digi-Key; Supplier Part Number 1: NSV1SS400T1G-ND; Supplier 2: Mouser; Supplier Part Number 2: 863-NSV1SS400T1G; Packing: Tape and Reel; RoHS: TRUE; Mounting Technology: Surface Mount; ComponentLink1Description: Manufacturer URL; ComponentLink1URL: http://www.onsemi.com/; ComponentLink2Description: Datasheet; ComponentLink2URL: http://www.onsemi.com/pub_link/Collateral/1SS400T1-D.PDF; ComponentLink3Description: Package Specification; ComponentLink3URL: http://www.onsemi.com/pub_link/Collateral/502-01.PDF
footprint ONSC-SOD-523-2-502-01_V (SOD, 2-Leads, Body 1.2x0.8mm)
pins: 1 K, 2 A

## NSVBAS19LT1G
designator D?
High Voltage Switching Diode, 3-Pin SOT-23, Pb-Free, Tape and Reel; Manufacturer: On Semiconductor; PartNumber: NSVBAS19LT1G; Note: 0; Configuration: Single; IF Max (A): 0.2; trr Max (ns): 50; DatasheetVersion: Rev. 15; PackageVersion: Rev. AP, 11/2009; PackageReference: SOT-23-3-318-08; PackageDescription: 3-Pin Small Outline Transistor, Body 2.92 x 1.3 mm, Pitch 0.95 mm; Packing: Tape and Reel; RoHS: TRUE; Mounting Technology: Surface Mount; ComponentLink1Description: Manufacturer URL; ComponentLink1URL: http://www.onsemi.com/; ComponentLink2Description: Datasheet; ComponentLink2URL: http://www.onsemi.com/pub_link/Collateral/BAS19LT1-D.PDF; ComponentLink3Description: Package Specification; ComponentLink3URL: http://www.onsemi.cn/pub_link/Collateral/318-08.PDF
footprint ONSC-SOT-23-3-318-08_V (SOT23, 3-Leads, Body 2.92x1.3mm, Pitch 0.95mm)
pins: 1 A, 2 NC, 3 K

## NSVBAS21HT1G
designator D?
High Voltage Switching Diode, 2-Pin SOD-323, Pb-Free, Tape and Reel; Manufacturer: On Semiconductor; PartNumber: NSVBAS21HT1G; Configuration: Single; IF Max (A): 0.2; trr Max (ns): 50; DatasheetVersion: Rev. 10; PackageVersion: Rev. G, 02/2005; PackageReference: SOD-323-2-477-02_G; PackageDescription: 2-Pin SOD, Body 1.7 x 1.25 mm; Supplier 1: Digi-Key; Supplier Part Number 1: NSVBAS21HT1G-ND; Supplier 2: Mouser; Supplier Part Number 2: 863-NSVBAS21HT1G; Packing: Tape and Reel; RoHS: TRUE; Mounting Technology: Surface Mount; ComponentLink1Description: Manufacturer URL; ComponentLink1URL: http://www.onsemi.com/; ComponentLink2Description: Datasheet; ComponentLink2URL: http://www.onsemi.com/pub_link/Collateral/BAS21HT1-D.PDF; ComponentLink3Description: Package Specification; ComponentLink3URL: http://www.onsemi.com/pub_link/Collateral/SD05T1-D.PDF
footprint ONSC-SOD-323-2-477-02_G_V (SOD, 2-Leads, Body 1.7x1.25mm)
pins: 1 K, 2 A

## NSVBAS21HT3G
designator D?
High Voltage Switching Diode, 2-Pin SOD-323, Pb-Free, Tape and Reel; Manufacturer: On Semiconductor; PartNumber: NSVBAS21HT3G; Configuration: Single; IF Max (A): 0.2; trr Max (ns): 50; DatasheetVersion: Rev. 10; PackageVersion: Rev. G, 02/2005; PackageReference: SOD-323-2-477-02_G; PackageDescription: 2-Pin SOD, Body 1.7 x 1.25 mm; Supplier 1: Digi-Key; Supplier Part Number 1: NSVBAS21HT3G-ND; Supplier 2: Mouser; Supplier Part Number 2: 863-NSVBAS21HT3G; Packing: Tape and Reel; RoHS: TRUE; Mounting Technology: Surface Mount; ComponentLink1Description: Manufacturer URL; ComponentLink1URL: http://www.onsemi.com/; ComponentLink2Description: Datasheet; ComponentLink2URL: http://www.onsemi.com/pub_link/Collateral/BAS21HT1-D.PDF; ComponentLink3Description: Package Specification; ComponentLink3URL: http://www.onsemi.com/pub_link/Collateral/SD05T1-D.PDF
footprint ONSC-SOD-323-2-477-02_G_V (SOD, 2-Leads, Body 1.7x1.25mm)
pins: 1 K, 2 A

## NSVBAS21SLT1G
designator D?
Dual Series High Voltage Switching Diodes, 3-Pin SOT-23, Pb-Free, Tape and Reel; Manufacturer: On Semiconductor; PartNumber: NSVBAS21SLT1G; Note: 0; IF Max (A): 0.225; trr Max (ns): 50; DatasheetVersion: Rev. 6; PackageVersion: Rev. AP, 11/2009; PackageReference: SOT-23-3-318-08; PackageDescription: 3-Pin Small Outline Transistor, Body 2.92 x 1.3 mm, Pitch 0.95 mm; Configuration: Dual Series; Packing: Tape and Reel; RoHS: TRUE; Mounting Technology: Surface Mount; ComponentLink1Description: Manufacturer URL; ComponentLink1URL: http://www.onsemi.com/; ComponentLink2Description: Datasheet; ComponentLink2URL: http://www.onsemi.com/pub_link/Collateral/BAS21SLT1-D.PDF; ComponentLink3Description: Package Specification; ComponentLink3URL: http://www.onsemi.cn/pub_link/Collateral/318-08.PDF
footprint ONSC-SOT-23-3-318-08_V (SOT23, 3-Leads, Body 2.92x1.3mm, Pitch 0.95mm)
pins: 1 A, 2 K, 3 K/A

## NSVBAS21TMR6T1G
designator D?
High Voltage Switching Diodes, 6-Pin SC-74, Pb-Free, Tape and Reel; Manufacturer: On Semiconductor; PartNumber: NSVBAS21TMR6T1G; Configuration: Triple; IF Max (A): 0.2; trr Max (ns): 50; DatasheetVersion: Rev. 0; PackageVersion: Rev. N, 06/2012; PackageReference: SC-74-6-318F-05; PackageDescription: 6-Pin Small Outline Transistor, Body 3 x 1.5 mm, Pitch 0.95 mm; Supplier 1: Newark; Supplier Part Number 1: 97W6366; Supplier 2: Mouser; Supplier Part Number 2: 863-NSVBAS21TMR6T1G; Packing: Tape and Reel; RoHS: TRUE; Mounting Technology: Surface Mount; ComponentLink1Description: Manufacturer URL; ComponentLink1URL: http://www.onsemi.com/; ComponentLink2Description: Datasheet; ComponentLink2URL: http://www.onsemi.com/pub_link/Collateral/BAS21TMR6-D.PDF; ComponentLink3Description: Package Specification; ComponentLink3URL: http://www.onsemi.com/pub_link/Collateral/318F-05.PDF
footprint ONSC-SC-74-6-318F-05_V (SOT23, 6-Leads, Body 3x1.5mm, Pitch 0.95mm)
part A pins: 1 K1, 6 A1
part B pins: 2 K2, 5 A2
part C pins: 3 K3, 4 A3

## NSVBAV70TT1G
designator D?
Dual Switching Diodes, 3-Pin SOT-416, Pb-Free, Tape and Reel; Manufacturer: On Semiconductor; PartNumber: NSVBAV70TT1G; Configuration: Common Cathode; IF Max (A): 0.2; trr Max (ns): 6; DatasheetVersion: Rev. 5; PackageVersion: Rev. F, 07/2005; PackageReference: SOT-416-3-463-01; PackageDescription: 3-Pin Small Outline Transistor, Body 1.6 x 0.8 mm, Pitch 0.5 mm; Supplier 1: Digi-Key; Supplier Part Number 1: NSVBAV70TT1G-ND; Supplier 2: Mouser; Supplier Part Number 2: 863-NSVBAV70TT1G; Packing: Tape and Reel; RoHS: TRUE; Mounting Technology: Surface Mount; ComponentLink1Description: Manufacturer URL; ComponentLink1URL: http://www.onsemi.com/; ComponentLink2Description: Datasheet; ComponentLink2URL: http://www.onsemi.cn/pub_link/Collateral/BAV70TT1-D.PDF; ComponentLink3Description: Package Specification; ComponentLink3URL: http://www.onsemi.com/pub_link/Collateral/463-01.PDF
footprint ONSC-SOT-416-3-463-01_V (SOT23, 3-Leads, Body 1.6x0.8mm, Pitch 0.5mm)
pins: 1 A1, 2 A2, 3 K

## NSVBAV70TT3G
designator D?
Dual Switching Diodes, 3-Pin SOT-416, Pb-Free, Tape and Reel; Manufacturer: On Semiconductor; PartNumber: NSVBAV70TT3G; Configuration: Common Cathode; IF Max (A): 0.2; trr Max (ns): 6; DatasheetVersion: Rev. 5; PackageVersion: Rev. F, 07/2005; PackageReference: SOT-416-3-463-01; PackageDescription: 3-Pin Small Outline Transistor, Body 1.6 x 0.8 mm, Pitch 0.5 mm; Supplier 1: Digi-Key; Supplier Part Number 1: NSVBAV70TT3G-ND; Supplier 2: Newark; Supplier Part Number 2: 76T6700; Supplier 3: Mouser; Supplier Part Number 3: 863-NSVBAV70TT3G; Packing: Tape and Reel; RoHS: TRUE; Mounting Technology: Surface Mount; ComponentLink1Description: Manufacturer URL; ComponentLink1URL: http://www.onsemi.com/; ComponentLink2Description: Datasheet; ComponentLink2URL: http://www.onsemi.cn/pub_link/Collateral/BAV70TT1-D.PDF; ComponentLink3Description: Package Specification; ComponentLink3URL: http://www.onsemi.com/pub_link/Collateral/463-01.PDF
footprint ONSC-SOT-416-3-463-01_V (SOT23, 3-Leads, Body 1.6x0.8mm, Pitch 0.5mm)
pins: 1 A1, 2 A2, 3 K

## RD0106T-H
designator D?
Planar Ultrafast Rectifier, Fast trr Type, 1 A, 600 V, 50 ns, 3-Pin IPAK3, Pb-Free, Bulk Bag; Manufacturer: On Semiconductor; PartNumber: RD0106T-H; Configuration: Single; DatasheetVersion: Rev. 0; PackageVersion: Rev. O, 01/2012; PackageReference: IPAK-3-369AJ; PackageDescription: 3-Pin Flange Mount, Vertical Straight Lead, Body 6.5 x 5.5 mm, Pitch 2.3 mm; Supplier 1: Digi-Key; Supplier Part Number 1: RD0106T-H-ND; Supplier 2: Mouser; Supplier Part Number 2: 863-RD0106T-H; Packing: Bulk Bag; RoHS: TRUE; Mounting Technology: Through Hole; ComponentLink1Description: Manufacturer URL; ComponentLink1URL: http://www.onsemi.com/; ComponentLink2Description: Datasheet; ComponentLink2URL: http://www.onsemi.com/pub_link/Collateral/ENA1704-D.PDF; ComponentLink3Description: Package Specification; ComponentLink3URL: http://www.onsemi.cn/pub_link/Collateral/369AJ.PDF
footprint ONSC-IPAK-3-369AJ (FM, 3-Leads, Body 6.7x2.5mm, Pitch 2.3mm)
pins: 1 NC, 2 K, 3 A

## RD0106T-TL-H
designator D?
Planar Ultrafast Rectifier, Fast trr Type, 1 A, 600 V, 50 ns, 3-Pin TP-FA, Pb-Free, Tape and Reel; Manufacturer: On Semiconductor; PartNumber: RD0106T-TL-H; Configuration: Single; DatasheetVersion: Rev. 0; PackageVersion: Rev. O, 01/2012; PackageReference: TP-FA-3-369AH; PackageDescription: 3-Pin Flange Mount, Body 6.5 x 5.5 mm, Pitch 2.3 mm; Supplier 1: Digi-Key; Supplier Part Number 1: RD0106T-TL-H-ND; Supplier 2: Mouser; Supplier Part Number 2: 863-RD0106T-TL-H; Packing: Tape and Reel; RoHS: TRUE; Mounting Technology: Surface Mount; ComponentLink1Description: Manufacturer URL; ComponentLink1URL: http://www.onsemi.com/; ComponentLink2Description: Datasheet; ComponentLink2URL: http://www.onsemi.com/pub_link/Collateral/ENA1704-D.PDF; ComponentLink3Description: Package Specification; ComponentLink3URL: http://www.onsemi.com/pub_link/Collateral/369AH.PDF
footprint ONSC-TP-FA-3-369AH_V (DPAK, 3-Leads, Body 6.5x5.5mm, Pitch 2.3mm)
pins: 1 NC, 3 A, 4 K

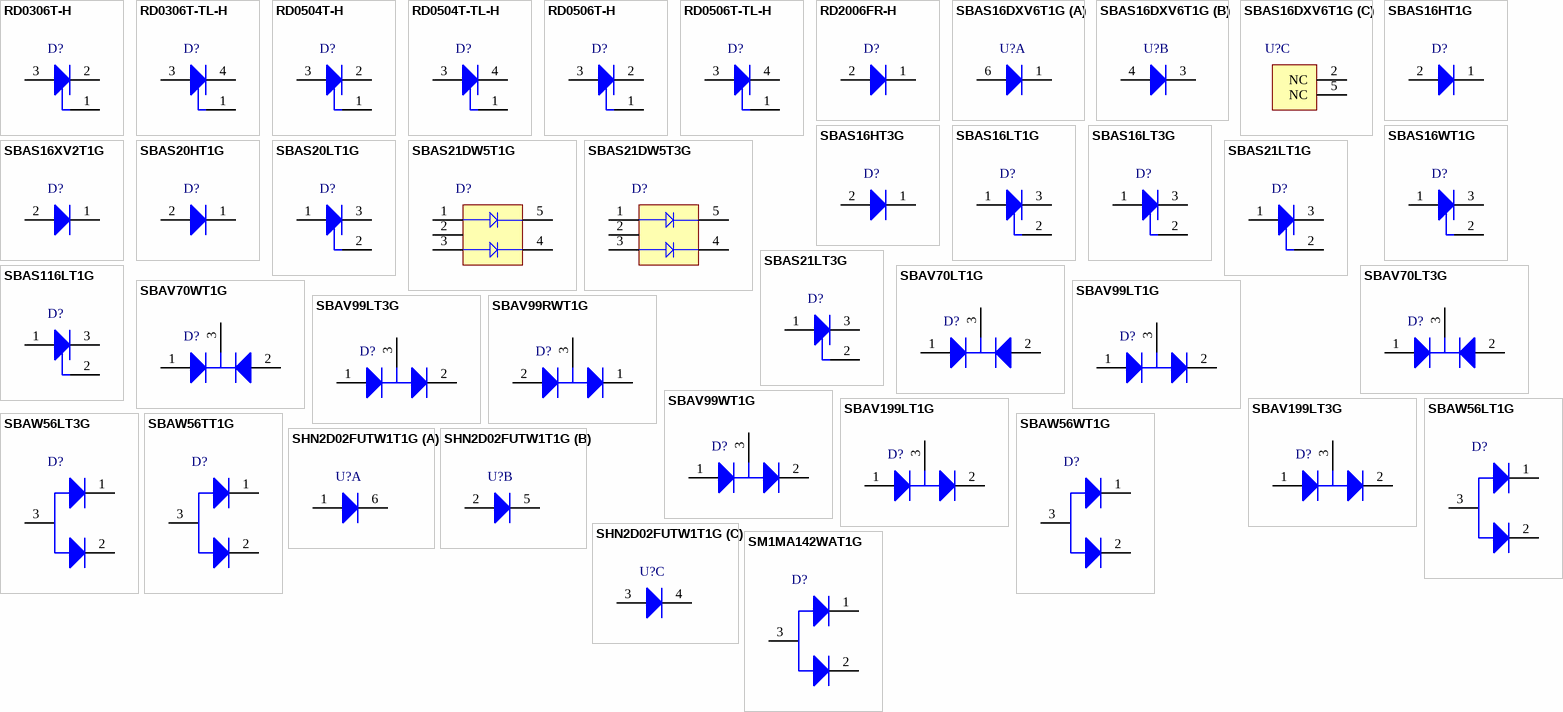
[diagram p5: symbols RD0306T-H to SM1MA142WAT1G]

## RD0306T-H
designator D?
Planar Ultrafast Rectifier, Fast trr Type, 3 A, 600 V, 50 nS, 3-Pin IPAK, Pb-Free, Bulk Bag; Manufacturer: On Semiconductor; PartNumber: RD0306T-H; Configuration: Single; DatasheetVersion: Rev. 1; PackageVersion: Rev. O, 01/2012; PackageReference: IPAK-3-369AJ; PackageDescription: 3-Pin Flange Mount, Vertical Straight Lead, Body 6.5 x 5.5 mm, Pitch 2.3 mm; Supplier 1: Digi-Key; Supplier Part Number 1: RD0306T-H-ND; Supplier 2: Mouser; Supplier Part Number 2: 863-RD0306T-H; Packing: Bulk Bag; RoHS: TRUE; Mounting Technology: Through Hole; ComponentLink1Description: Manufacturer URL; ComponentLink1URL: http://www.onsemi.com/; ComponentLink2Description: Datasheet; ComponentLink2URL: http://www.onsemi.com/pub_link/Collateral/ENA1573-D.PDF; ComponentLink3Description: Package Specification; ComponentLink3URL: http://www.onsemi.cn/pub_link/Collateral/369AJ.PDF
footprint ONSC-IPAK-3-369AJ (FM, 3-Leads, Body 6.7x2.5mm, Pitch 2.3mm)
pins: 1 NC, 2 K, 3 A

## RD0306T-TL-H
designator D?
Planar Ultrafast Rectifier, Fast trr Type, 3 A, 600 V, 50 nS, 3-Pin TP-FA, Pb-Free, Tape and Reel; Manufacturer: On Semiconductor; PartNumber: RD0306T-TL-H; Configuration: Single; DatasheetVersion: Rev. 1; PackageVersion: Rev. O, 01/2012; PackageReference: TP-FA-3-369AH; PackageDescription: 3-Pin Flange Mount, Body 6.5 x 5.5 mm, Pitch 2.3 mm; Supplier 1: Digi-Key; Supplier Part Number 1: RD0306T-TL-H-ND; Supplier 2: Mouser; Supplier Part Number 2: 863-RD0306T-TL-H; Packing: Tape and Reel; RoHS: TRUE; Mounting Technology: Surface Mount; ComponentLink1Description: Manufacturer URL; ComponentLink1URL: http://www.onsemi.com/; ComponentLink2Description: Datasheet; ComponentLink2URL: http://www.onsemi.com/pub_link/Collateral/ENA1573-D.PDF; ComponentLink3Description: Package Specification; ComponentLink3URL: http://www.onsemi.com/pub_link/Collateral/369AH.PDF
footprint ONSC-TP-FA-3-369AH_V (DPAK, 3-Leads, Body 6.5x5.5mm, Pitch 2.3mm)
pins: 1 NC, 3 A, 4 K